# EAGLE library part V4220 (library jason_eagle6)
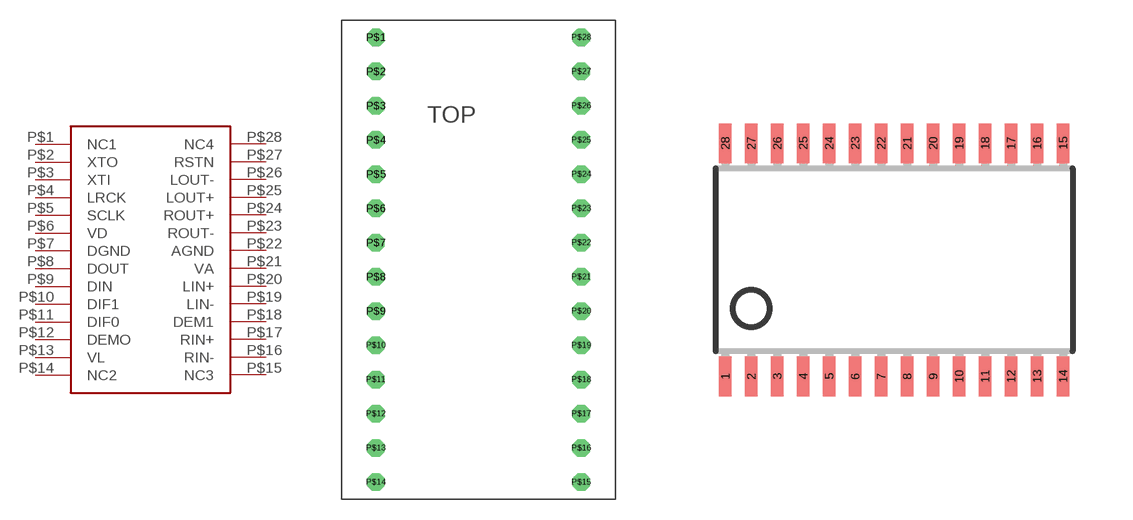
[diagram p40: symbol with the pads of V4220M_BREAKOUT; footprints V4220M_BREAKOUT, TSSOP28]

Designator prefix -

## V4220  [V4220M_BREAKOUT]
P$1  NC1
P$2  XTO
P$3  XTI
P$4  LRCK
P$5  SCLK
P$6  VD
P$7  DGND
P$8  DOUT
P$9  DIN
P$10  DIF1
P$11  DIF0
P$12  DEMO
P$13  VL
P$14  NC2
P$15  NC3
P$16  RIN-
P$17  RIN+
P$18  DEM1
P$19  LIN-
P$20  LIN+
P$21  VA
P$22  AGND
P$23  ROUT-
P$24  ROUT+
P$25  LOUT+
P$26  LOUT-
P$27  RSTN
P$28  NC4

## V4220TSSOP28  [TSSOP28]
1  NC1
2  XTO
3  XTI
4  LRCK
5  SCLK
6  VD
7  DGND
8  DOUT
9  DIN
10  DIF1
11  DIF0
12  DEMO
13  VL
14  NC2
15  NC3
16  RIN-
17  RIN+
18  DEM1
19  LIN-
20  LIN+
21  VA
22  AGND
23  ROUT-
24  ROUT+
25  LOUT+
26  LOUT-
27  RSTN
28  NC4

## Footprint V4220M_BREAKOUT (pad centres in mm)
drill 0.8 octagon: P$1 -6.35,10.16; P$2 -6.35,7.62; P$3 -6.35,5.08; P$4 -6.35,2.54; P$5 -6.35,0; P$6 -6.35,-2.54; P$7 -6.35,-5.08; P$8 -6.35,-7.62; P$9 -6.35,-10.16; P$10 -6.35,-12.7; P$11 -6.35,-15.24; P$12 -6.35,-17.78; P$13 -6.35,-20.32; P$14 -6.35,-22.86; P$15 8.89,-22.86; P$16 8.89,-20.32; P$17 8.89,-17.78; P$18 8.89,-15.24; P$19 8.89,-12.7; P$20 8.89,-10.16; P$21 8.89,-7.62; P$22 8.89,-5.08; P$23 8.89,-2.54; P$24 8.89,0; P$25 8.89,2.54; P$26 8.89,5.08; P$27 8.89,7.62; P$28 8.89,10.16

## Footprint TSSOP28 (pad centres in mm)
smd 0.305 x 0.991: 1 -4.225,-2.918; 2 -3.575,-2.918; 3 -2.925,-2.918; 4 -2.275,-2.918; 5 -1.625,-2.918; 6 -0.975,-2.918; 7 -0.325,-2.918; 8 0.325,-2.918; 9 0.975,-2.918; 10 1.625,-2.918; 11 2.275,-2.918; 12 2.925,-2.918; 13 3.575,-2.918; 14 4.225,-2.918; 15 4.225,2.918; 16 3.575,2.918; 17 2.925,2.918; 18 2.275,2.918; 19 1.625,2.918; 20 0.975,2.918; 21 0.325,2.918; 22 -0.325,2.918; 23 -0.975,2.918; 24 -1.625,2.918; 25 -2.275,2.918; 26 -2.925,2.918; 27 -3.575,2.918; 28 -4.225,2.918